# EAGLE library part MA03-2 (library GadgetFactory_v1)
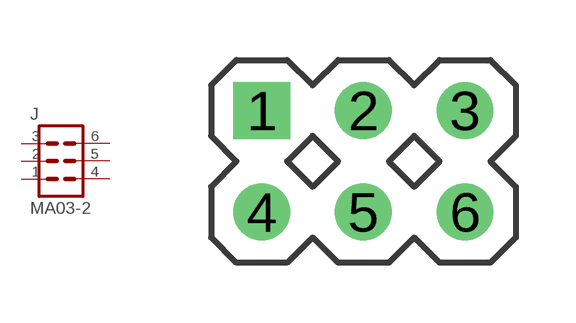
[diagram p33: symbol with the pads of MA03-2; footprint MA03-2]

Designator prefix J

## MA03-2  [MA03-2]
1  1  pas
2  2  pas
3  3  pas
4  4  pas
5  5  pas
6  6  pas

## Footprint MA03-2 (pad centres in mm)
drill 0.9 pad 1.422 square: 1 -2.54,0
drill 0.9 pad 1.422: 2 0,0; 3 2.54,0; 4 -2.54,-2.54; 5 0,-2.54; 6 2.54,-2.54